# Altium schematic symbol library Mini-Circuits_BPF_3pin.SchLib: 1 symbol
Pins are listed as number, name and electrical type; pins without a type are passive.

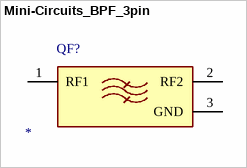
[diagram p0: symbol Mini-Circuits_BPF_3pin]

## Mini-Circuits_BPF_3pin
designator QF?
Part Number: *
pins: 1 RF1, 2 RF2, 3 GND